# Altium schematic symbol library Schlib1.SchLib: 3 symbols
Pins are listed as number, name and electrical type; pins without a type are passive.

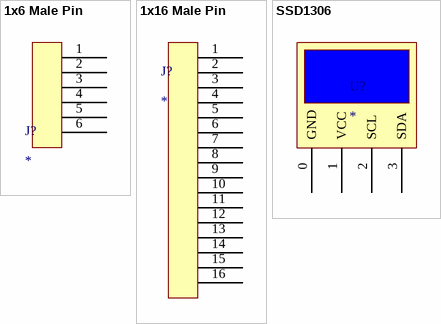
[diagram p0: symbols 1x6 Male Pin to SSD1306]

## 1x6 Male Pin
designator J?
footprint 1x6 Male Pin
pins: 1, 2, 3, 4, 5, 6

## 1x16 Male Pin
designator J?
footprint 1x16 Male Pin
pins: 1, 2, 3, 4, 5, 6, 7, 8, 9, 10, 11, 12, 13, 14, 15, 16

## SSD1306
designator U?
SSD1306 128x64 0.96 inch OLED Display
footprint SSD1306
pins: 0 GND, 1 VCC, 2 SCL, 3 SDA